# Altium schematic symbol library SC18IS600IPW_S8HP.Schlib: 1 symbol
Pins are listed as number, name and electrical type; pins without a type are passive.

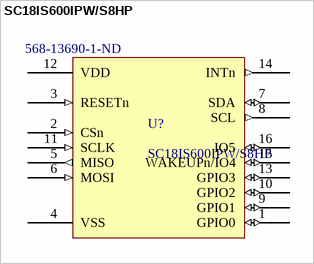
[diagram p0: symbol SC18IS600IPW/S8HP]

## SC18IS600IPW/S8HP
designator U?  Supplier Part Number 1: 568-13690-1-ND
SPI to I2C bridge.; Supplier 1: Digikey
footprint TSOP65P640X110-16N (TSOP, 16-Leads, Body 5.00x4.40mm, Pitch 0.65mm, IPC Medium Density)
pins: 1 GPIO0 (io), 2 CSn (in), 3 RESETn (in), 4 VSS (power), 5 MISO (out), 6 MOSI (in), 7 SDA (io), 8 SCL (out), 9 GPIO1 (io), 10 GPIO2 (io), 11 SCLK (in), 12 VDD (power), 13 GPIO3 (io), 14 INTn (out), 15 WAKEUPn/IO4 (io), 16 IO5 (io)